# EAGLE library part TLC5928 (library boomerang)
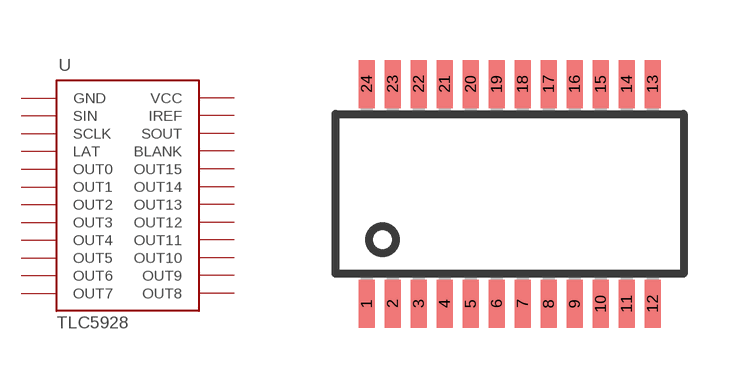
[diagram p3: symbol with the pads of DBQ_R-PDSO-G24; footprint DBQ_R-PDSO-G24]

Designator prefix -

## TLC5928  [DBQ_R-PDSO-G24]
1  GND
2  SIN
3  SCLK
4  LAT
5  OUT0
6  OUT1
7  OUT2
8  OUT3
9  OUT4
10  OUT5
11  OUT6
12  OUT7
13  OUT8
14  OUT9
15  OUT10
16  OUT11
17  OUT12
18  OUT13
19  OUT14
20  OUT15
21  BLANK
22  SOUT
23  IREF
24  VCC

## Footprint DBQ_R-PDSO-G24 (pad centres in mm)
PLASTIC SMALL-OUTLINE PACKAGE SO 24 JEDEC MO-153, PW Type Source: www.ti.com/.. slvs087l.pdf
smd 0.4 x 1.2: 1 -3.675,-2.7; 2 -3.025,-2.7; 3 -2.375,-2.7; 4 -1.725,-2.7; 5 -1.075,-2.7; 6 -0.425,-2.7; 7 0.225,-2.7; 8 0.875,-2.7; 9 1.525,-2.7; 10 2.175,-2.7; 11 2.825,-2.7; 12 3.475,-2.7; 13 3.475,2.8; 14 2.825,2.8; 15 2.175,2.8; 16 1.525,2.8; 17 0.875,2.8; 18 0.225,2.8; 19 -0.425,2.8; 20 -1.075,2.8; 21 -1.725,2.8; 22 -2.375,2.8; 23 -3.025,2.8; 24 -3.675,2.8